# Altium footprint library SSD34.PcbLib: 1 footprints
Each footprint in its own frame and in the unit in brackets; x right, y up, seen from the top. Pads: shape width x height; smd on the part's side, far side on the other; paste and mask are expansions set on the pad; w line width, h text height; cw(c..) or ccw(c..) is an arc to the next point about the centre after c.
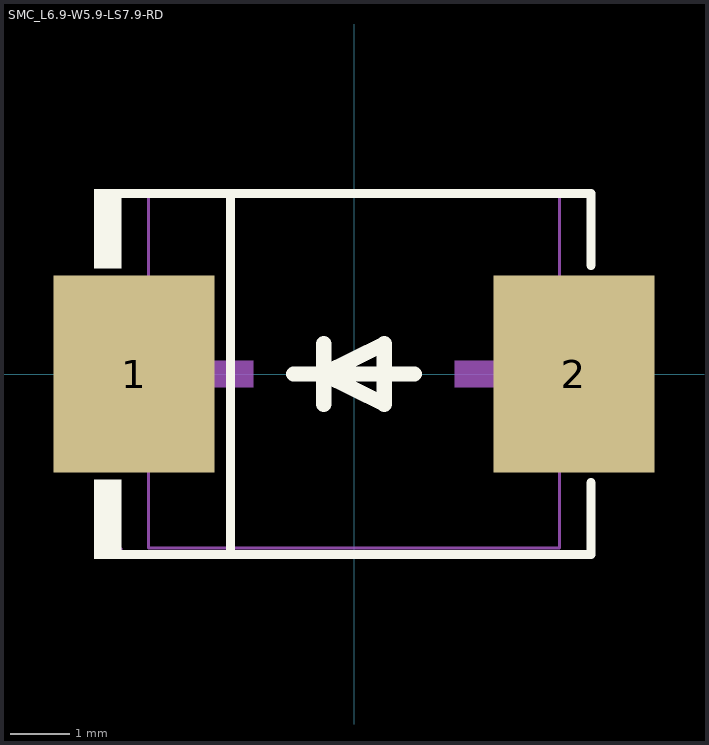
[diagram p0: the footprint, top view; thin cyan lines are the x and y axes]

## SMC_L6.9-W5.9-LS7.9-RD [mm]
pads (2):
  rect 2.7x3.3 smd: 1(-3.686,0) 2(3.686,0)
Top Overlay:
  region: -3.9,-3.102 -3.9,-1.772 -4.357,-1.772 -4.357,-3.102
  region: -3.9,3.102 -3.9,1.772 -4.357,1.772 -4.357,3.102
  lines w0.152: -3.976,-3.026 3.976,-3.026 3.976,-1.823 ; -3.976,3.026 3.976,3.026 3.976,1.823 ; -2.069,-3.026 -2.069,3.026
  lines w0.254: -1.016,0 1.016,0 ; -0.508,0.508 -0.508,-0.508 -0.508,0 ; -0.508,0 0.508,0.508 0.508,-0.508 -0.508,0
Mechanical 6:
  region: 2.794,-1.475 2.794,1.475 2.351,1.475 2.351,-1.475
  region: 3.457,-0.221 3.457,0.221 1.687,0.221 1.687,-0.221
  region: -3.457,-0.221 -3.457,0.221 -1.687,0.221 -1.687,-0.221
Mechanical 15:
  region: 3.95,-1.5 3.95,1.5 2.7,1.5 2.7,-1.5
  region: -3.95,-1.5 -3.95,1.5 -2.7,1.5 -2.7,-1.5
  region: -3.89,-2.95 -3.891,-2.926 -3.926,-2.892 -3.974,-2.892 -4.009,-2.926 -4.01,-2.95 -4.009,-2.974 -3.974,-3.008 -3.926,-3.008 -3.891,-2.974 -3.89,-2.95
  lines w0.051: -3.45,-2.921 3.45,-2.921 3.45,2.979 -3.45,2.979 -3.45,-2.921